# Altium schematic symbol library Trimmer.SchLib: 1 symbol
Pins are listed as number, name and electrical type; pins without a type are passive.

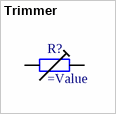
[diagram p0: symbol Trimmer]

## Trimmer
designator R?
pins: 1, 2, 3